# EAGLE library part JST-15 (library con-jst)
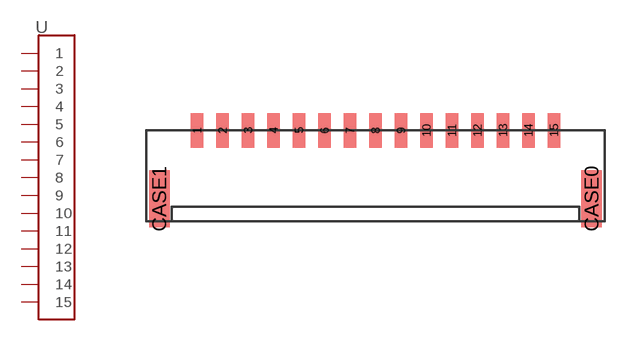
[diagram p4: symbol with the pads of GH-15-V; footprint GH-15-V]

Designator prefix -

## JST-15  [GH-15-V]
1  1
2  2
3  3
4  4
5  5
6  6
7  7
8  8
9  9
10  10
11  11
12  12
13  13
14  14
15  15

## Footprint GH-15-V (pad centres in mm)
smd 0.6 x 1.7: 1 -8.75,2.5; 2 -7.5,2.5; 3 -6.25,2.5; 4 -5,2.5; 5 -3.75,2.5; 6 -2.5,2.5; 7 -1.25,2.5; 8 0,2.5; 9 1.25,2.5; 10 2.5,2.5; 11 3.75,2.5; 12 5,2.5; 13 6.25,2.5; 14 7.5,2.5; 15 8.75,2.5
smd 1 x 2.8: CASE0 10.6,-0.85; CASE1 -10.6,-0.85